# EAGLE library part CS43L22-CNZ (library CS43L22-CNZ)
CS43L22-CNZ, Audio DAC 24 bit-, 96ksps Serial, 40-Pin QFN Source: Datasheet <https://d3uzseaevmutz1.cloudfront.net/pubs/proDatasheet/CS43L22_F2.pdf>
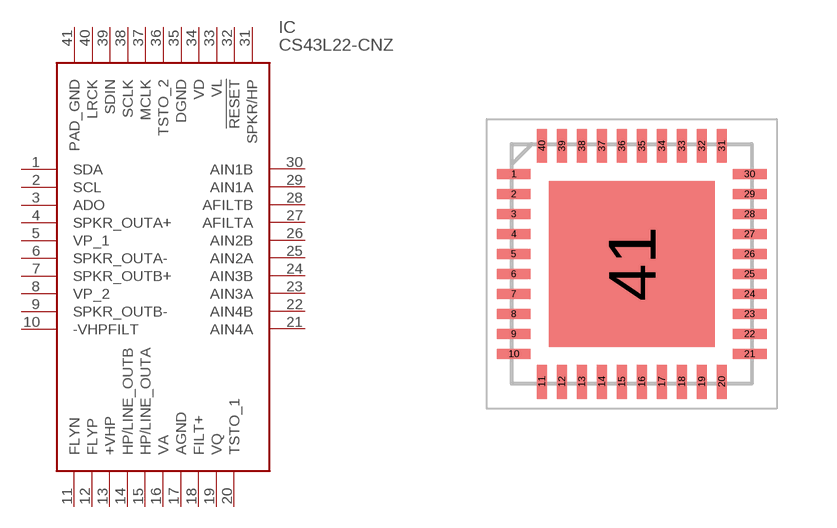
[diagram p0: symbol with the pads of QFN50P600X600X100-41N; footprint QFN50P600X600X100-41N]

Designator prefix IC

## CS43L22-CNZ (Description: CS43L22-CNZ, Audio DAC 24 bit-, 96ksps Serial, 40-Pin QFN; Height: 1mm; Manufacturer_Name: Cirrus Logic; Manufacturer_Part_Number: CS43L22-CNZ; Mouser_Part_Number: 777-CS43L22-CNZ; Mouser_Price-Stock: https://www.mouser.com/Search/Refine.aspx?Keyword=777-CS43L22-CNZ; RS_Part_Number: 7165851P; RS_Price-Stock: http://uk.rs-online.com/web/p/products/7165851P)  [QFN50P600X600X100-41N]
1  SDA
2  SCL
3  ADO
4  SPKR_OUTA+
5  VP_1
6  SPKR_OUTA-
7  SPKR_OUTB+
8  VP_2
9  SPKR_OUTB-
10  -VHPFILT
11  FLYN
12  FLYP
13  +VHP
14  HP/LINE_OUTB
15  HP/LINE_OUTA
16  VA
17  AGND
18  FILT+
19  VQ
20  TSTO_1
21  AIN4A
22  AIN4B
23  AIN3A
24  AIN3B
25  AIN2A
26  AIN2B
27  AFILTA
28  AFILTB
29  AIN1A
30  AIN1B
31  SPKR/HP
32  !RESET
33  VL
34  VD
35  DGND
36  TSTO_2
37  MCLK
38  SCLK
39  SDIN
40  LRCK
41  PAD_GND

## Footprint QFN50P600X600X100-41N (pad centres in mm)
40L QFN
smd 0.85 x 0.25: 1 -2.95,2.25; 2 -2.95,1.75; 3 -2.95,1.25; 4 -2.95,0.75; 5 -2.95,0.25; 6 -2.95,-0.25; 7 -2.95,-0.75; 8 -2.95,-1.25; 9 -2.95,-1.75; 10 -2.95,-2.25; 21 2.95,-2.25; 22 2.95,-1.75; 23 2.95,-1.25; 24 2.95,-0.75; 25 2.95,-0.25; 26 2.95,0.25; 27 2.95,0.75; 28 2.95,1.25; 29 2.95,1.75; 30 2.95,2.25
smd 0.25 x 0.85: 11 -2.25,-2.95; 12 -1.75,-2.95; 13 -1.25,-2.95; 14 -0.75,-2.95; 15 -0.25,-2.95; 16 0.25,-2.95; 17 0.75,-2.95; 18 1.25,-2.95; 19 1.75,-2.95; 20 2.25,-2.95; 31 2.25,2.95; 32 1.75,2.95; 33 1.25,2.95; 34 0.75,2.95; 35 0.25,2.95; 36 -0.25,2.95; 37 -0.75,2.95; 38 -1.25,2.95; 39 -1.75,2.95; 40 -2.25,2.95
smd 4.15 x 4.15: 41 0,0